# EAGLE library part BTS712N1 (library platypus)
Smart Four Channel Highside Power Switch N channel vertical power FET with charge pump, ground referenced CMOS compatible input and diagnostic feedback, monolithically integrated in Smart SIPMOS technology. Providing embedded protective functions.
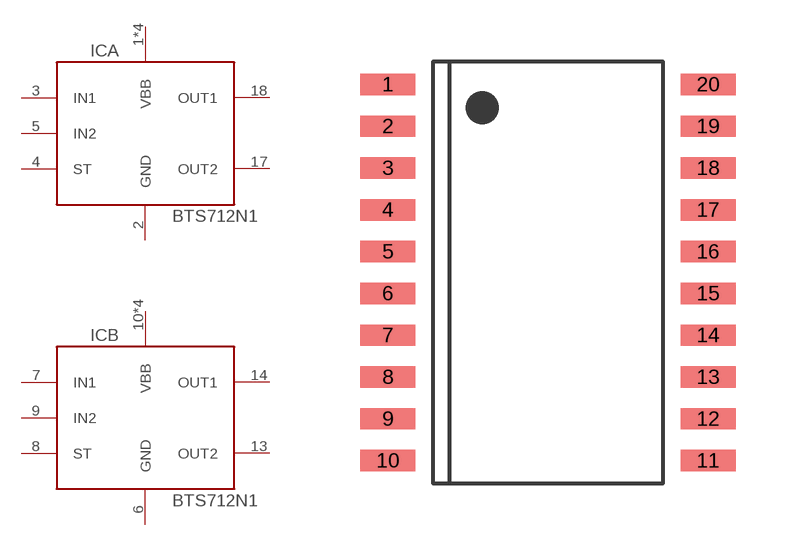
[diagram p1: symbol with the pads of PG-DSO-20; footprint PG-DSO-20]

Designator prefix IC; gates A=BTS712N1 B=BTS712N1

## BTS712N1 (MF: Infineon; MPN: BTS712N1)  [PG-DSO-20]
1  A:VBB  pwr
2  A:GND  pwr
3  A:IN1  in
4  A:ST
5  A:IN2  in
6  B:GND  pwr
7  B:IN1  in
8  B:ST
9  B:IN2  in
10  B:VBB  pwr
11  B:VBB  pwr
12  B:VBB  pwr
13  B:OUT2  out
14  B:OUT1  out
15  B:VBB  pwr
16  A:VBB  pwr
17  A:OUT2  out
18  A:OUT1  out
19  A:VBB  pwr
20  A:VBB  pwr

## Footprint PG-DSO-20 (pad centres in mm)
smd 1.67 x 0.65: 1 -4.865,5.715; 2 -4.865,4.445; 3 -4.865,3.175; 4 -4.865,1.905; 5 -4.865,0.635; 6 -4.865,-0.635; 7 -4.865,-1.905; 8 -4.865,-3.175; 9 -4.865,-4.445; 10 -4.865,-5.715; 11 4.865,-5.715; 12 4.865,-4.445; 13 4.865,-3.175; 14 4.865,-1.905; 15 4.865,-0.635; 16 4.865,0.635; 17 4.865,1.905; 18 4.865,3.175; 19 4.865,4.445; 20 4.865,5.715